# Altium schematic symbol library ANTENNA.SchLib: 1 symbol
Pins are listed as number, name and electrical type; pins without a type are passive.

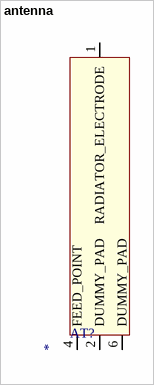
[diagram p0: symbol antenna]

## antenna
designator AT?
type: *
footprint 1.6-0.8_4_ANT016008LCS2442MA2 (pasieve antenna, 2.4 GHz - 2.48 GHz, bluetooth/ble,  50 ohm)
pins: 1 RADIATOR_ELECTRODE, 2 DUMMY_PAD, 4 FEED_POINT, 6 DUMMY_PAD